# Altium footprint library 9V.PcbLib: 1 footprints
Each footprint in its own frame and in the unit in brackets; x right, y up, seen from the top. Pads: shape width x height; smd on the part's side, far side on the other; paste and mask are expansions set on the pad; w line width, h text height; cw(c..) or ccw(c..) is an arc to the next point about the centre after c.
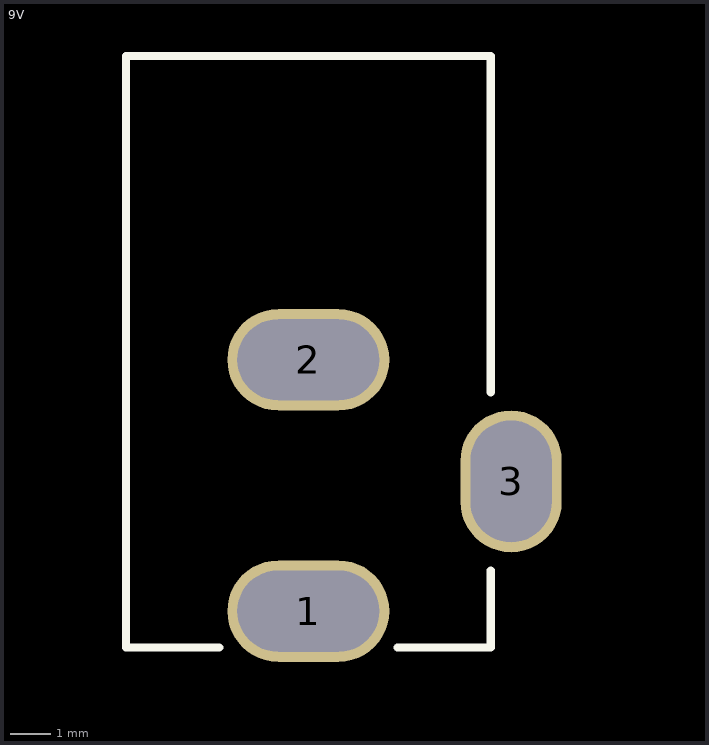
[diagram p0: the footprint, top view; thin cyan lines are the x and y axes]

## 9V [mm]
pads (3):
  oval 4x2.5 hole 2 slot 3.5 at 0 deg: 1(-772.668,-881.745) 2(-772.668,-875.545)
  oval 2.5x3.5 hole 2 slot 3 at 90 deg: 3(-767.668,-878.545)
Top Overlay:
  lines w0.2: -774.868,-882.645 -777.168,-882.645 -777.168,-868.045 -768.168,-868.045 -768.168,-876.345 ; -770.468,-882.645 -768.168,-882.645 -768.168,-880.745